# Altium footprint library local_lib.PcbLib: 25 footprints (part 2 of 2)
Each footprint in its own frame and in the unit in brackets; x right, y up, seen from the top. Pads: shape width x height; smd on the part's side, far side on the other; paste and mask are expansions set on the pad; w line width, h text height; cw(c..) or ccw(c..) is an arc to the next point about the centre after c.
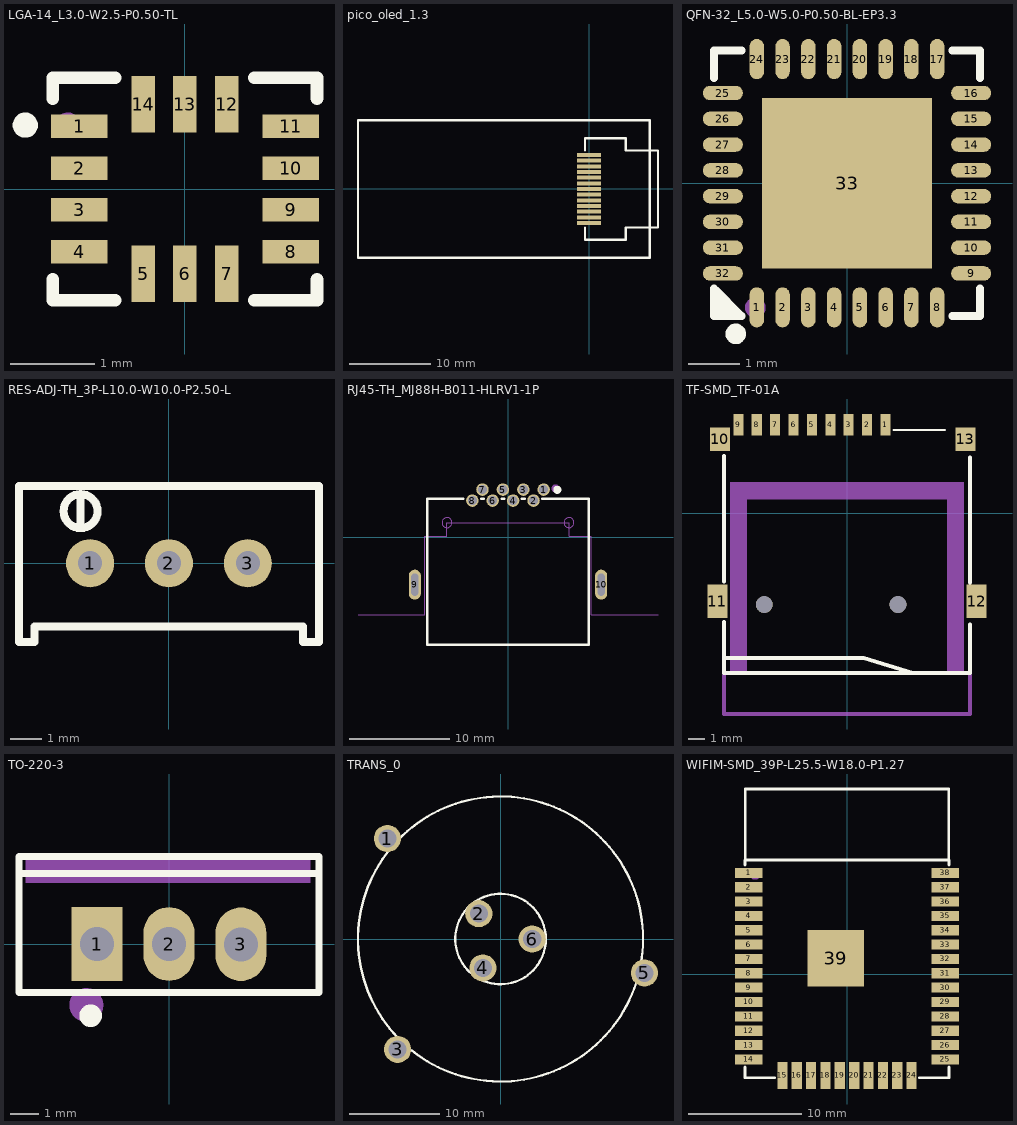
[diagram p1: the footprints below, top view; thin cyan lines are the x and y axes]

## LGA-14_L3.0-W2.5-P0.50-TL [mm]
pads (14):
  rect 0.675x0.28 smd paste+0 mask+0.051: 1(-1.262,0.75) 2(-1.262,0.25) 3(-1.262,-0.25) 4(-1.262,-0.75) 8(1.262,-0.75) 9(1.262,-0.25) 10(1.262,0.25) 11(1.262,0.75)
  rect 0.28x0.675 smd paste+0 mask+0.051: 5(-0.5,-1.012) 6(0,-1.012) 7(0.5,-1.012) 12(0.5,1.012) 13(0,1.012) 14(-0.5,1.012)
Top Overlay:
  circle w0.15: c-1.905,0.762 r0.075
  lines w0.152: -1.576,-1.08 -1.576,-1.326 -0.831,-1.326 ; -1.576,1.08 -1.576,1.326 -0.831,1.326 ; 0.83,-1.326 1.576,-1.326 1.576,-1.08 ; 0.83,1.326 1.576,1.326 1.576,1.08
Mechanical 15:
  circle w0.15: c-1.397,0.762 r0.075
3D body: height 0.83, standoff 0, extent -1.5,-1.25 1.5,1.25

## pico_oled_1.3 [mm]
pads (13):
  rect 3x0.5 smd: 1(0,-4.2) 2(0,-3.5) 3(0,-2.8) 4(0,-2.1) 5(0,-1.4) 6(0,-0.7) 7(0,0) 8(0,0.7) 9(0,1.4) 10(0,2.1) 11(0,2.8) 12(0,3.5) 13(0,4.2)
Top Overlay:
  lines w0.3: -0.5,-4.75 -0.5,-6.25 4.5,-6.25 4.5,-4.75 8.5,-4.75 8.5,4.75 4.5,4.75 4.5,6.25 -0.5,6.25 -0.5,4.75 ; -28.5,-8.5 7.5,-8.5 7.5,8.5 -28.5,8.5 -28.5,-8.5
3D body: height 1.8, standoff 0, extent 7.5,-4.75 8.5,4.75
3D body: height 2, standoff 0, extent -28.5,-8.5 7.5,8.5

## QFN-32_L5.0-W5.0-P0.50-BL-EP3.3 [mm]
pads (33):
  oval 0.28x0.78 smd paste-100 mask+0.051: 1(-1.75,-2.408) 2(-1.25,-2.408) 3(-0.75,-2.408) 4(-0.25,-2.408) 5(0.25,-2.408) 6(0.75,-2.408) 7(1.25,-2.408) 8(1.75,-2.408) 17(1.75,2.407) 18(1.25,2.407) 19(0.75,2.407) 20(0.25,2.407) 21(-0.25,2.407) 22(-0.75,2.407) 23(-1.25,2.407) 24(-1.75,2.407)
  oval 0.78x0.28 smd paste-100 mask+0.051: 9(2.407,-1.75) 10(2.407,-1.25) 11(2.407,-0.75) 12(2.407,-0.25) 13(2.407,0.25) 14(2.407,0.75) 15(2.407,1.25) 16(2.407,1.75) 25(-2.408,1.75) 26(-2.408,1.25) 27(-2.408,0.75) 28(-2.408,0.25) 29(-2.408,-0.25) 30(-2.408,-0.75) 31(-2.408,-1.25) 32(-2.408,-1.75)
  rect 3.3x3.3 smd paste-100 mask+0.051: 33(0,0)
Top Overlay:
  circle w0.2: c-2.159,-2.921 r0.1
  region: -2.042,-2.576 -2.576,-2.576 -2.54,-2.032
  lines w0.152: -2.576,-2.042 -2.576,-2.576 -2.042,-2.576 ; -2.576,2.042 -2.576,2.576 -2.042,2.576 ; -2.549,-2.07 -2.069,-2.549 ; 2.042,-2.576 2.576,-2.576 2.576,-2.042 ; 2.042,2.576 2.576,2.576 2.576,2.042
Top Paste:
  drawing of 33 lines, arcs and shapes, not listed
Mechanical 15:
  circle w0.2: c-1.778,-2.413 r0.1
3D body: height 0.8, standoff 0, extent -2.5,-2.5 2.5,2.5

## RES-ADJ-TH_3P-L10.0-W10.0-P2.50-L [mil]
pads (3):
  round 60 hole 30 paste-99999 mask+2: 1(-98.42,0) 2(0,0) 3(98.42,0)
Top Overlay:
  lines w10: -110.39,50 -110.39,65 ; -110.4,86.2 ccw(c-110.19,64.99) -109.99,86.2 ; 187.01,96.46 -187.01,96.46 -187.01,-96.46 -187.01,-98.42 -167.52,-98.42 -167.52,-78.74 167.52,-78.74 167.52,-98.42 187.22,-98.42 187.22,-96.46 187.22,96.46 ; -110.39,65 -110.39,80 -110.39,65
3D body "User Library-3296_Bourns.step": height 454.72, standoff -300, extent -187.6,-95.08 187.6,95.08

## RJ45-TH_MJ88H-B011-HLRV1-1P [mm]
pads (10):
  round 1.25 hole 0.9 paste-2539.97 mask+0.05: 1(3.57,4.75) 2(2.55,3.65) 3(1.53,4.75) 4(0.51,3.65) 5(-0.51,4.75) 6(-1.53,3.65) 7(-2.55,4.75) 8(-3.57,3.65)
  oval 1.2x3 hole 0.7 slot 2.2 at 90 deg paste-2539.97 mask+0.05: 9(-9.32,-4.75) 10(9.32,-4.75)
Top Overlay:
  circle w0.4: c4.93,4.73 r0.2
  lines w0.254: -4.454,3.85 -8.09,3.85 -8.09,-10.75 -8.07,-10.74 8.09,-10.74 8.09,3.85 3.434,3.85 ; -2.686,3.85 -2.414,3.85 ; -0.646,3.85 -0.374,3.85 ; 1.394,3.85 1.666,3.85
Mechanical 1:
  circle w0.001: c6.1,1.45 r0.5
  circle w0.001: c-6.1,1.45 r0.5
  lines w0.001: -15,-7.75 -8.3,-7.75 -8.3,0.11 -6.1,0.11 -6.1,1.45 6.1,1.45 6.1,0.11 8.3,0.11 8.3,-7.75 15,-7.75
Mechanical 15:
  circle w0.4: c4.76,4.87 r0.2

## TF-SMD_TF-01A [mm]
height 15.5
pads (15):
  rect 0.6x1.3 smd: 1(2.301,5.276) 2(1.201,5.276) 3(0.101,5.276) 4(-0.999,5.276) 5(-2.099,5.276) 6(-3.199,5.276) 7(-4.299,5.276) 8(-5.399,5.276) 9(-6.499,5.276)
  rect 1.2x1.4 smd: 10(-7.599,4.426) 13(7.081,4.426)
  rect 1.2x2 smd: 11(-7.76,-5.276) 12(7.76,-5.276)
  round 1 hole 1 unplated: ""(-4.95,-5.478) ""(3.05,-5.476)
Top Overlay:
  lines w0.102: 2.786,4.972 5.885,4.973
  lines w0.254: -7.366,-9.091 -7.366,-8.667 1,-8.666 3.937,-9.563 ; -7.366,-6.516 -7.366,-9.564 7.366,-9.564 7.366,-6.666 ; -7.366,-4.103 -7.366,3.406 ; 7.366,-4.167 7.366,3.326
Mechanical 15:
  circle w0.4: c3.05,-5.475 r0.2
  circle w0.4: c-4.95,-5.478 r0.2
  region: -6,1.834 6,1.834 6,0.834 -6,0.834
  region: 7,-9.666 7,1.834 6,1.834 6,-9.666
  region: -7,-9.666 -7,1.834 -6,1.834 -6,-9.666
  lines w0.254: -7.366,-9.724 -7.366,-12.024 7.366,-12.024 7.366,-9.724
3D body: height 2, standoff 0, extent -7.5,-9.5 7.5,5

## TO-220-3 [mm]
pads (3):
  rect 1.8x2.6 hole 1.2 paste-2539.97 mask+0.051: 1(-2.54,0.005)
  oval 1.8x2.6 hole 1.2 paste-2539.97 mask+0.051: 2(0,0.005) 3(2.54,-0.005)
Top Overlay:
  lines w0.254: -5.3,2.495 5.3,2.495 ; -5.301,-1.704 5.301,-1.704 5.301,3.094 -5.301,3.094 -5.301,3.089 -5.301,-1.704
  lines w0.4: -2.77,-2.33 ccw(c-2.769,-2.53) -2.768,-2.33
Mechanical 15:
  circle w0.6: c-2.921,-2.154 r0.3
  region: -5.06,3.01 -5.06,2.17 4.99,2.17 4.99,3.01
3D body "User Library-mosfet fairchild semi to220 fqpfxxx.SLDPRT": height 21.3, standoff -7.55, extent -5.08,-1.705 5.08,3.095

## TRANS_0 [mm]
pads (6):
  round 3 hole 2: 1(-12.5,11.1) 2(-2.4,2.8) 3(-11.372,-12.2) 4(-1.95,-3.2) 5(15.9,-3.75) 6(3.5,0)
Top Overlay:
  circle w0.254: c0,0 r15.75
  circle w0.254: c0,0 r5
3D body: height 15.5, standoff 1, extent -15.75,-15.75 15.75,15.75

## WIFIM-SMD_39P-L25.5-W18.0-P1.27 [mm]
pads (39):
  rect 2.4x0.9 smd paste+0 mask+0.051: 1(-8.7,8.965) 2(-8.7,7.695) 3(-8.7,6.425) 4(-8.7,5.155) 5(-8.7,3.885) 6(-8.7,2.615) 7(-8.7,1.345) 8(-8.7,0.075) 9(-8.7,-1.195) 10(-8.7,-2.465) 11(-8.7,-3.735) 12(-8.7,-5.005) 13(-8.7,-6.275) 14(-8.7,-7.545) 25(8.7,-7.545) 26(8.7,-6.275) 27(8.7,-5.005) 28(8.7,-3.735) 29(8.7,-2.465) 30(8.7,-1.195) 31(8.7,0.075) 32(8.7,1.345) 33(8.7,2.615) 34(8.7,3.885) 35(8.7,5.155) 36(8.7,6.425) 37(8.7,7.695) 38(8.7,8.965)
  rect 0.9x2.4 smd paste+0 mask+0.051: 15(-5.715,-8.965) 16(-4.445,-8.965) 17(-3.175,-8.965) 18(-1.905,-8.965) 19(-0.635,-8.965) 20(0.635,-8.965) 21(1.905,-8.965) 22(3.175,-8.965) 23(4.445,-8.965) 24(5.715,-8.965)
  rect 5x5 smd paste+0 mask+0.051: 39(-1.017,1.422)
Top Overlay:
  lines w0.254: -9.017,-8.226 -9.017,-9.171 -6.396,-9.171 ; -9.017,9.646 -9.017,10.108 9.017,10.108 9.017,9.646 ; 6.396,-9.171 9.017,-9.171 9.017,-8.226 ; -9,10.085 9,10.085 9,16.385 -9,16.385 -9,10.085
Mechanical 15:
  circle w0.5: c-8.128,8.863 r0.25
3D body "User Library-esp-wroom-32.step": height 3, standoff -0.04, extent -9.045,-9.07 9.025,16.47